# Altium footprint library SIGNAL.PcbLib: 6 footprints
Each footprint in its own frame and in the unit in brackets; x right, y up, seen from the top. Pads: shape width x height; smd on the part's side, far side on the other; paste and mask are expansions set on the pad; w line width, h text height; cw(c..) or ccw(c..) is an arc to the next point about the centre after c.
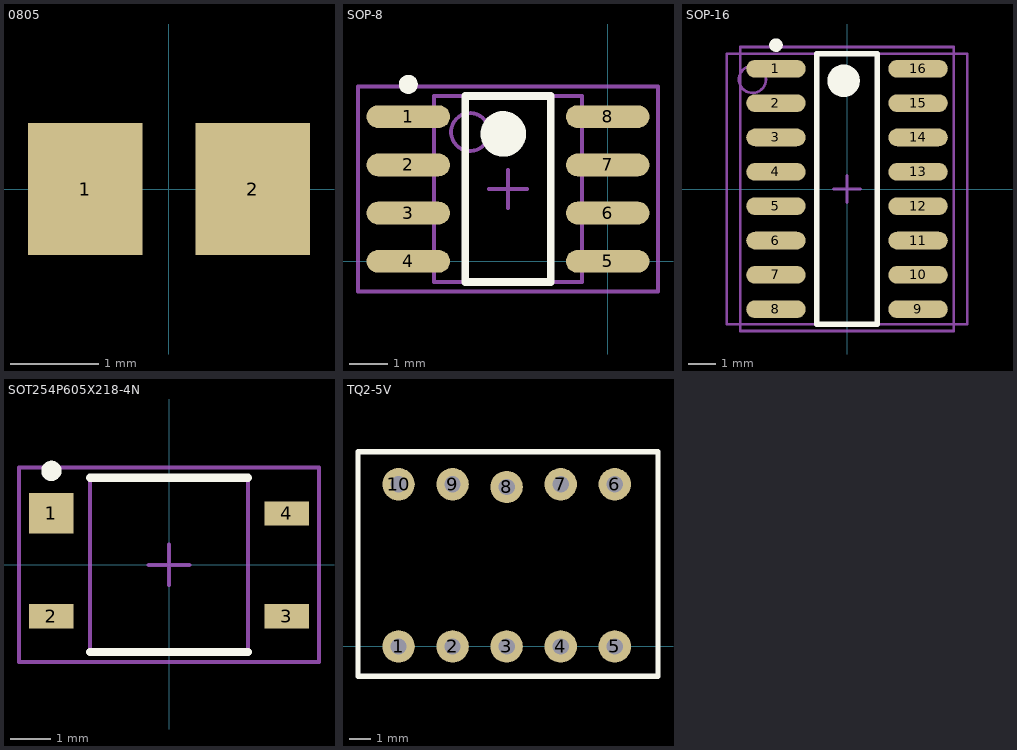
[diagram p0: the footprints below, top view; thin cyan lines are the x and y axes]

## 0805 [mm] "Chip Resistor; Body 2.0 x 1.3 mm (LxW typ)"
height 2.54
pads (2):
  rect 1.3x1.5 smd: 1(-0.95,0) 2(0.95,0)

## PCBComponent_1 [mm]

## SOP-8 [mm] "SOP, 8-Leads, Body 4.9x3.9mm (max), Pitch 1.27mm, IPC Medium Density"
height 1.75
pads (8):
  oval 2.2x0.6 smd: 1(-5.25,3.81) 2(-5.25,2.54) 3(-5.25,1.27) 4(-5.25,0) 5(0,0) 6(0,1.27) 7(0,2.54) 8(0,3.81)
Top Overlay:
  circle w0.6: c-2.75,3.355 r0.3
  circle w0.25: c-5.25,4.66 r0.125
  lines w0.2: -3.75,-0.545 -1.5,-0.545 -1.5,4.355 -3.75,4.355 -3.75,-0.545
Mechanical 13:
  circle w0.1: c-3.625,3.405 r0.5
  lines w0.1: -4.575,-0.545 -0.675,-0.545 -0.675,4.355 -4.575,4.355 -4.575,-0.545
Mechanical 15:
  lines w0.1: -3.125,1.905 -2.125,1.905 ; -2.625,1.405 -2.625,2.405 ; -6.575,-0.795 1.325,-0.795 1.325,4.605 -6.575,4.605 -6.575,-0.795
3D body: height 1.75, standoff 0.1, extent -4.575,-0.545 -0.675,4.355

## SOP-16 [mm] "SOP, 16-Leads, Body 10.0x8.9mm (max), Pitch 1.27mm, IPC Medium Density"
height 1.75
pads (16):
  oval 2.2x0.65 smd: 1(-2.625,4.445) 2(-2.625,3.175) 3(-2.625,1.905) 4(-2.625,0.635) 5(-2.625,-0.635) 6(-2.625,-1.905) 7(-2.625,-3.175) 8(-2.625,-4.445) 9(2.625,-4.445) 10(2.625,-3.175) 11(2.625,-1.905) 12(2.625,-0.635) 13(2.625,0.635) 14(2.625,1.905) 15(2.625,3.175) 16(2.625,4.445)
Top Overlay:
  circle w0.6: c-0.125,4 r0.3
  circle w0.25: c-2.625,5.32 r0.125
  lines w0.2: -1.125,-5 1.125,-5 1.125,5 -1.125,5 -1.125,-5
Mechanical 13:
  circle w0.1: c-3.495,4.05 r0.5
  lines w0.1: -4.445,-5 4.445,-5 4.445,5 -4.445,5 -4.445,-5
Mechanical 15:
  lines w0.1: -0.5,0 0.5,0 ; 0,-0.5 0,0.5 ; -3.95,-5.25 3.95,-5.25 3.95,5.25 -3.95,5.25 -3.95,-5.25
3D body: height 1.75, standoff 0.1, extent -1.125,-5 1.125,5

## SOT254P605X218-4N [mm] "SOT143, 4-Leads, Body 4.3x6.1mm (max), Pitch 2.54mm, IPC Medium Density"
height 2.184
pads (4):
  rect 1.1x1 smd: 1(-2.9,1.27)
  rect 1.1x0.6 smd: 2(-2.9,-1.27) 3(2.9,-1.27) 4(2.9,1.27)
Top Overlay:
  circle w0.25: c-2.9,2.32 r0.125
  lines w0.2: -1.95,-2.15 1.95,-2.15 ; -1.95,2.15 1.95,2.15
Mechanical 13:
  lines w0.1: -1.945,-2.145 -1.945,2.145 1.945,2.145 1.945,-2.145 -1.945,-2.145
Mechanical 15:
  lines w0.1: -0.5,0 0.5,0 ; 0,-0.5 0,0.5 ; -3.7,-2.4 -3.7,2.4 3.7,2.4 3.7,-2.4 -3.7,-2.4
3D body: height 2.18, standoff 0.15, extent -1.945,-2.145 1.945,2.145

## TQ2-5V [mil]
pads (10):
  round 60 hole 30: 1(225,0) 2(325,0) 3(425,0) 4(525,0) 5(625,0) 6(625,300) 7(525,300) 8(425,295) 9(325,300) 10(225,300)
Top Overlay:
  lines w10: 150,-55 150,360 705,360 705,-55 150,-55